# Altium schematic symbol library mosfet_tph3206.SchLib: 1 symbol
Pins are listed as number, name and electrical type; pins without a type are passive.

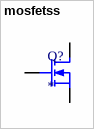
[diagram p0: symbol mosfetss]

## mosfetss
designator Q?
footprint tph3206_powmos
pins: 1 G, 2 S, 3 D